# Altium schematic symbol library Schlib1.SchLib: 5 symbols
Pins are listed as number, name and electrical type; pins without a type are passive.

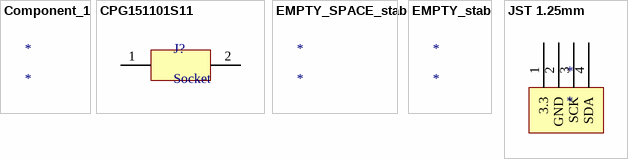
[diagram p0: symbols Component_1 to JST 1.25mm]

## Component_1
designator *

## CPG151101S11
designator J?, comment Socket
Kailh hotswap socket
footprint SOCKET
pins: 1 "ROW", 2 "COL"

## EMPTY_SPACE_stab
designator *
footprint SPACE_STAB

## EMPTY_stab
designator *
footprint space_bar_stab

## JST 1.25mm
designator *
footprint JST
pins: 1 3.3, 2 GND, 3 SCK, 4 SDA